# EAGLE library part WD-C1602Q (library 0_HTL_uC-MEGACARD)
LCD Display 16x2 Controler HD44780 oder ähnlich
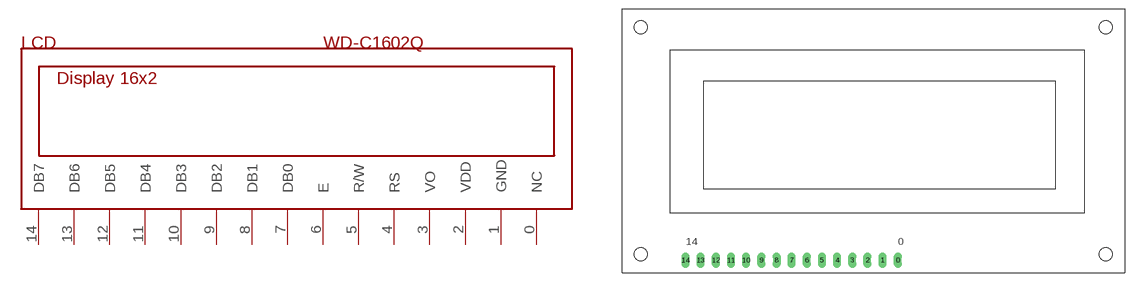
[diagram p16: symbol with the pads of WD-C1602Q; footprint WD-C1602Q]

Designator prefix LCD

## WD-C1602Q  [WD-C1602Q]
0  NC  nc
1  GND  pwr
2  VDD  pwr
3  VO  in
4  RS  in
5  R/W  in
6  E  in
7  DB0
8  DB1
9  DB2
10  DB3
11  DB4
12  DB5
13  DB6
14  DB7

## Footprint WD-C1602Q (pad centres in mm)
drill 0.8 long: 0 35.56,0; 1 33.02,0; 2 30.48,0; 3 27.94,0; 4 25.4,0; 5 22.86,0; 6 20.32,0; 7 17.78,0; 8 15.24,0; 9 12.7,0; 10 10.16,0; 11 7.62,0; 12 5.08,0; 13 2.54,0; 14 0,0
hole 2.2 at -7.5,1
hole 2.2 at -7.5,39
hole 2.2 at 70.4,39
hole 2.2 at 70.4,1